# Altium footprint library PcbLib1.pcblib: 7 footprints
Each footprint in its own frame and in the unit in brackets; x right, y up, seen from the top. Pads: shape width x height; smd on the part's side, far side on the other; paste and mask are expansions set on the pad; w line width, h text height; cw(c..) or ccw(c..) is an arc to the next point about the centre after c.
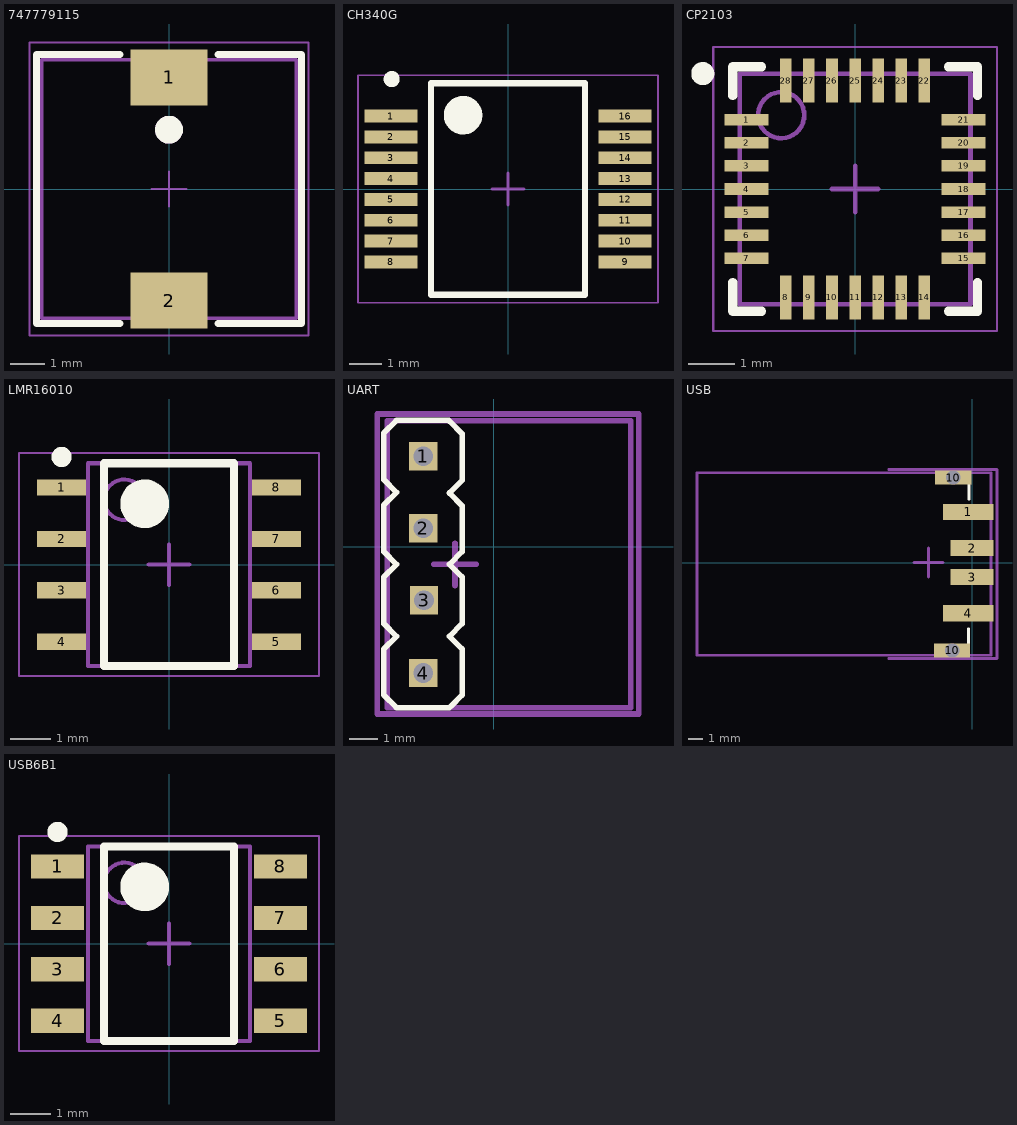
[diagram p0: the footprints below, top view; thin cyan lines are the x and y axes]

## 747779115 [mm]
pads (2):
  rect 2.2x1.6 smd: 1(0,3.2) 2(0,-3.2)
Top Overlay:
  circle w0.4: c0,1.7 r0.2
  lines w0.2: -1.4,-3.85 -3.8,-3.85 -3.8,3.85 -1.4,3.85 ; 1.4,-3.85 3.8,-3.85 3.8,3.85 1.4,3.85
3D View:
  circle w0.4: c0,1.7 r0.2
  lines w0.1: -3.65,-3.7 -3.65,3.7 3.65,3.7 3.65,-3.7 -3.65,-3.7
Board:
  lines w0.05: -0.5,0 0.5,0 ; 0,-0.5 0,0.5 ; -4,-4.2 -4,4.2 4,4.2 4,-4.2 -4,-4.2
3D body "7447773xx.stp": height 4.22, standoff 0, extent -3.651,-3.65 3.651,3.65

## CH340G [mm] "CH340G"
height 5
pads (16):
  rect 1.65x0.4 smd: 1(-3.65,2.275) 2(-3.65,1.625) 3(-3.65,0.975) 4(-3.65,0.325) 5(-3.65,-0.325) 6(-3.65,-0.975) 7(-3.65,-1.625) 8(-3.65,-2.275) 9(3.65,-2.275) 10(3.65,-1.625) 11(3.65,-0.975) 12(3.65,-0.325) 13(3.65,0.325) 14(3.65,0.975) 15(3.65,1.625) 16(3.65,2.275)
Top Overlay:
  circle w0.6: c-1.4,2.3 r0.3
  circle w0.25: c-3.625,3.425 r0.125
  lines w0.2: -2.4,-3.3 2.4,-3.3 2.4,3.3 -2.4,3.3 -2.4,-3.3
Board:
  lines w0.05: -4.675,-3.55 4.675,-3.55 4.675,3.55 -4.675,3.55 -4.675,-3.55
  lines w0.1: -0.5,0 0.5,0 ; 0,-0.5 0,0.5
3D body "SW3dPS-ssop-16 pos.STEP": height 1.94, standoff -0.04, extent -3.95,-3.162 3.95,3.162

## CP2103 [mm] "DD?"
height 1
pads (28):
  rect 0.95x0.25 smd: 1(-2.35,1.5) 2(-2.35,1) 3(-2.35,0.5) 4(-2.35,0) 5(-2.35,-0.5) 6(-2.35,-1) 7(-2.35,-1.5) 15(2.35,-1.5) 16(2.35,-1) 17(2.35,-0.5) 18(2.35,0) 19(2.35,0.5) 20(2.35,1) 21(2.35,1.5)
  rect 0.25x0.95 smd: 8(-1.5,-2.35) 9(-1,-2.35) 10(-0.5,-2.35) 11(0,-2.35) 12(0.5,-2.35) 13(1,-2.35) 14(1.5,-2.35) 22(1.5,2.35) 23(1,2.35) 24(0.5,2.35) 25(0,2.35) 26(-0.5,2.35) 27(-1,2.35) 28(-1.5,2.35)
Top Overlay:
  circle w0.25: c-3.3,2.5 r0.125
  lines w0.2: -2.65,-2.025 -2.65,-2.65 -2.025,-2.65 ; -2.65,2.025 -2.65,2.65 -2.025,2.65 ; 2.025,-2.65 2.65,-2.65 2.65,-2.025 ; 2.025,2.65 2.65,2.65 2.65,2.025
3D View:
  circle w0.1: c-1.6,1.6 r0.5
  lines w0.1: -2.5,-2.5 -2.5,2.5 2.5,2.5 2.5,-2.5 -2.5,-2.5
Board:
  lines w0.05: -3.075,-3.075 -3.075,3.075 3.075,3.075 3.075,-3.075 -3.075,-3.075
  lines w0.1: -0.5,0 0.5,0 ; 0,-0.5 0,0.5
3D body "CP2103-GM.stp": height 1, standoff 0, extent -2.55,-2.55 2.55,2.55

## LMR16010 [mm] "DD?"
height 1.75
pads (8):
  rect 1.2x0.4 smd: 1(-2.65,1.905) 2(-2.65,0.635) 3(-2.65,-0.635) 4(-2.65,-1.905) 5(2.65,-1.905) 6(2.65,-0.635) 7(2.65,0.635) 8(2.65,1.905)
Top Overlay:
  circle w0.25: c-2.65,2.655 r0.125
  circle w0.6: c-0.6,1.5 r0.3
  lines w0.2: -1.6,-2.5 -1.6,2.5 1.6,2.5 1.6,-2.5 -1.6,-2.5
3D View:
  circle w0.1: c-1.1,1.6 r0.5
  lines w0.1: -2,-2.5 -2,2.5 2,2.5 2,-2.5 -2,-2.5
Board:
  lines w0.05: -3.7,-2.75 -3.7,2.75 3.7,2.75 3.7,-2.75 -3.7,-2.75
  lines w0.1: -0.5,0 0.5,0 ; 0,-0.5 0,0.5
3D body: height 1.75, standoff 0.1, extent -2,-2.5 2,2.5

## UART [mm]
pads (4):
  rect 1x1 hole 0.7 square: 1(-2.5,3.2) 2(-2.5,0.65) 3(-2.475,-1.9) 4(-2.5,-4.475)
Top Overlay:
  lines w0.2: -3.9,-2.725 -3.45,-3.175 -3.9,-3.625 -3.9,-3.8 -3.9,-5.25 -3.45,-5.7 -1.575,-5.7 ; -3.9,-2.7 -3.9,-2.525 -3.9,-1.075 -3.45,-0.625 -3.9,-0.175 ; -3.9,-0.15 -3.9,0.025 -3.9,1.475 -3.45,1.925 -3.9,2.375 ; -3.9,2.4 -3.9,2.575 -3.9,4.025 -3.45,4.475 -1.6,4.475 -1.575,4.45 -1.125,4 -1.125,2.55 -1.125,2.375 ; -1.525,-5.65 -1.125,-5.25 -1.125,-5.075 -1.125,-3.625 -1.575,-3.175 -1.125,-2.725 -1.125,-2.7 -1.125,-2.525 -1.125,-1.075 -1.575,-0.625 -1.125,-0.175 -1.125,0 -1.125,1.45 -1.575,1.9 -1.125,2.35
3D View:
  lines w0.2: -3.775,-5.705 -3.775,4.455 4.845,4.455 4.845,-5.705 -3.775,-5.705
Board:
  lines w0.2: -2.125,-0.625 -0.625,-0.625 ; -1.375,-1.375 -1.375,0.125 ; -4.125,-5.925 -1.125,-5.925 5.125,-5.925 5.125,4.7 -4.125,4.7 -4.125,-5.925
3D body "User Library-PLS-4R gold.STEP": height 5.45, standoff -3, extent -3.775,-5.705 4.845,4.455

## USB [mm]
pads (6):
  rect 3.5x1.12 smd: 1(-0.25,3.5) 4(-0.25,-3.5)
  rect 3x1.12 smd: 2(0,1) 3(0,-1)
  rect 2.5x1 hole 1 square: 10(-1.375,-6.075) 10(-1.3,5.875)
Top Overlay:
  lines w0.2: -1.875,-6.2 -0.25,-6.2 -0.25,-4.575 ; -1.825,6 -0.2,6 -0.2,4.375
3D View:
  lines w0.2: -19,-6.403 -19,6.203 1.3,6.203 1.3,-6.403 -19,-6.403
Board:
  lines w0.2: -5.75,-6.625 -2.625,-6.625 1.725,-6.625 1.725,6.425 -5.75,6.425 ; -4,0 -2,0 ; -3,-1 -3,1
3D body "14381.stp": height 3.2, standoff -2.6, extent -19,-6.403 1.3,6.203

## USB6B1 [mm] "VD?"
height 1.75
pads (8):
  rect 1.3x0.6 smd: 1(-2.75,1.905) 2(-2.75,0.635) 3(-2.75,-0.635) 4(-2.75,-1.905) 5(2.75,-1.905) 6(2.75,-0.635) 7(2.75,0.635) 8(2.75,1.905)
Top Overlay:
  circle w0.6: c-0.6,1.4 r0.3
  circle w0.25: c-2.75,2.755 r0.125
  lines w0.2: -1.6,-2.4 1.6,-2.4 1.6,2.4 -1.6,2.4 -1.6,-2.4
3D View:
  circle w0.1: c-1.1,1.5 r0.5
  lines w0.1: -2,-2.4 2,-2.4 2,2.4 -2,2.4 -2,-2.4
Board:
  lines w0.05: -3.7,-2.65 3.7,-2.65 3.7,2.65 -3.7,2.65 -3.7,-2.65
  lines w0.1: -0.5,0 0.5,0 ; 0,-0.5 0,0.5
3D body: height 1.75, standoff 0.1, extent -2,-2.4 2,2.4